# Altium footprint library My Library.PcbLib: 161 footprints (part 1 of 11)
Each footprint in its own frame and in the unit in brackets; x right, y up, seen from the top. Pads: shape width x height; smd on the part's side, far side on the other; paste and mask are expansions set on the pad; w line width, h text height; cw(c..) or ccw(c..) is an arc to the next point about the centre after c.
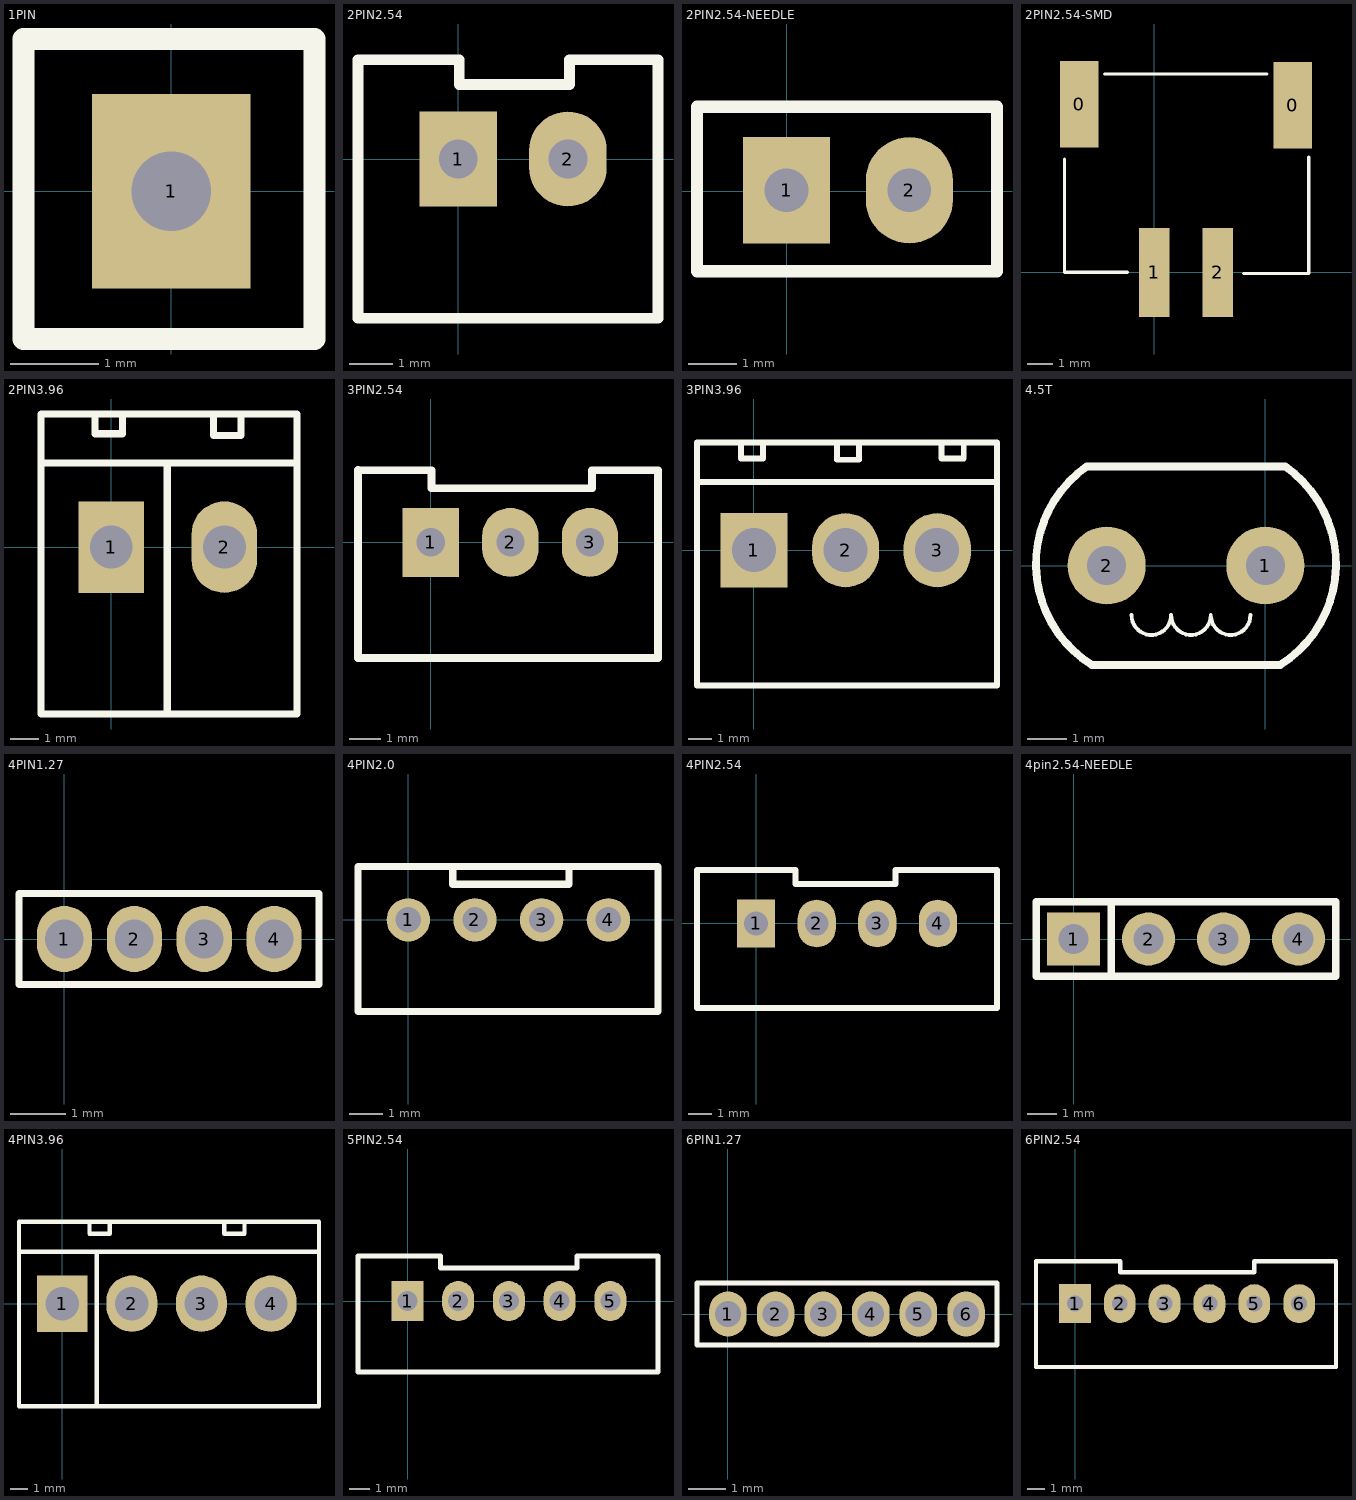
[diagram p0: the footprints below, top view; thin cyan lines are the x and y axes]

## 1PIN [mm]
height 10
pads (1):
  rect 1.8x2.2 hole 0.9: 1(0,0)
Top Overlay:
  lines w0.25: -1.675,-1.675 -1.675,1.725 1.625,1.725 1.624,-1.675 -1.675,-1.675

## 2PIN2.54 [mm]
pads (2):
  rect 1.8x2.2 hole 0.9: 1(0,0)
  oval 1.8x2.2 hole 0.9: 2(2.54,0)
Top Overlay:
  lines w0.25: -2.322,2.302 -2.322,-3.688 4.628,-3.688 ; -2.3,2.3 0.025,2.3 0.025,1.725 2.575,1.725 2.575,2.3 4.625,2.3 ; 4.626,-3.69 4.628,2.292

## 2PIN2.54-NEEDLE [mm]
height 10
pads (2):
  rect 1.8x2.2 hole 0.9: 1(0,0.025)
  oval 1.8x2.2 hole 0.9: 2(2.54,0.025)
Top Overlay:
  lines w0.25: 4.325,1.75 -1.85,1.75 -1.85,-1.65 4.349,-1.65 4.35,1.75

## 2PIN2.54-SMD [mm]
height 5
pads (4):
  rect 1.5x3.4 smd: 0(-2.95,6.6) 0(5.45,6.575)
  rect 1.2x3.5 smd: 1(0,0) 2(2.5,0)
Top Overlay:
  lines w0.127: -3.525,4.45 -3.525,0 -1.05,0 ; -1.95,7.8 4.425,7.8 ; 3.525,-0.05 6.075,-0.05 6.075,4.525

## 2PIN3.96 [mm]
height 10
pads (2):
  rect 2.3x3.2 hole 1.5: 1(0,0)
  oval 2.3x3.2 hole 1.5: 2(3.96,0)
Top Overlay:
  lines w0.25: -2.434,2.95 6.496,2.95 ; -0.564,4.61 -0.564,3.97 0.39,3.97 0.39,4.61 ; 1.96,-5.82 1.96,2.89 ; 3.586,4.55 3.586,3.91 4.54,3.91 4.54,4.55 ; -2.46,-5.84 6.506,-5.84 6.506,4.66 -2.46,4.66 -2.46,-5.84

## 3PIN2.54 [mm]
height 6
pads (3):
  rect 1.8x2.2 hole 0.9: 1(0,0)
  oval 1.8x2.2 hole 0.9: 2(2.54,0) 3(5.08,0)
Top Overlay:
  lines w0.25: -2.322,2.302 -2.322,-3.688 7.249,-3.688 7.251,2.3 5.15,2.3 5.15,1.725 0.025,1.725 0.025,2.3 -2.3,2.3

## 3PIN3.96 [mm]
height 10
pads (3):
  rect 2.9x3.2 hole 1.9: 1(0,0)
  oval 2.9x3.2 hole 1.9: 2(3.96,0) 3(7.92,0)
Top Overlay:
  lines w0.25: -2.434,2.95 6.496,2.95 ; -0.564,4.61 -0.564,3.97 0.39,3.97 0.39,4.61 ; 3.586,4.55 3.586,3.91 4.54,3.91 4.54,4.55 ; 6.45,2.95 10.5,2.95 ; 6.5,4.65 10.498,4.65 10.504,-5.826 ; 6.506,-5.84 -2.46,-5.84 -2.46,4.66 6.506,4.66 ; 6.525,-5.85 10.5,-5.85 10.5,-5.775 ; 8.111,4.6 8.111,3.96 9.065,3.96 9.065,4.6

## 4.5T [mm]
height 5
pads (2):
  round 2 hole 1: 1(0,0) 2(-4.064,0)
Top Overlay:
  lines w0.1: -3.429,-1.27 ccw(c-2.921,-1.27) -2.413,-1.27 ccw(c-1.905,-1.27) -1.397,-1.27 ccw(c-0.889,-1.27) -0.381,-1.27
  lines w0.2: 0.378,-2.545 -4.448,-2.545 cw(c-2.821,0.039) -4.572,2.54 0.508,2.54 cw(c-1.243,0.039) 0.384,-2.545

## 4PIN1.27 [mm]
height 10
pads (4):
  oval 1x1.2 hole 0.7: 1(0,0) 2(1.27,0) 3(2.54,0) 4(3.81,0)
Top Overlay:
  lines w0.127: -0.825,-0.825 -0.825,0.825 4.625,0.825 4.625,-0.825 -0.825,-0.825

## 4PIN2.0 [mm]
height 5
pads (4):
  round 1.3 hole 0.762: 1(0,0) 2(2,0) 3(4,0) 4(6,0)
Top Overlay:
  lines w0.22: 1.33,1.58 1.33,1.07 4.82,1.07 4.82,1.55 ; -1.508,-2.75 7.49,-2.75 7.49,1.6 -1.508,1.6 -1.508,-2.75

## 4PIN2.54 [mm]
height 10
pads (4):
  rect 1.6x2 hole 1: 1(0,0)
  oval 1.6x2 hole 1: 2(2.54,0) 3(5.08,0) 4(7.62,0)
Top Overlay:
  lines w0.25: 1.65,2.232 1.65,1.65 5.85,1.65 5.85,2.232 ; 1.65,2.25 -2.48,2.25 -2.48,-3.55 10.1,-3.55 10.1,2.25 5.85,2.25

## 4pin2.54-NEEDLE [mm]
height 10
pads (4):
  rect 1.8x1.8 hole 1: 1(0,0)
  round 1.8 hole 1: 2(2.54,0) 3(5.08,0) 4(7.62,0)
Top Overlay:
  lines w0.254: 1.27,-1.27 1.27,1.27 ; -1.27,-1.27 -1.27,1.27 8.89,1.27 8.89,-1.27 -1.27,-1.27

## 4PIN3.96 [mm]
height 10
pads (4):
  rect 2.9x3.2 hole 1.9: 1(0,0)
  oval 2.9x3.2 hole 1.9: 2(3.96,0) 3(7.92,0) 4(11.88,0)
Top Overlay:
  lines w0.25: -2.44,2.942 14.568,2.942 ; 1.55,4.61 1.55,3.97 2.7,3.97 2.7,4.61 ; 1.96,-5.82 1.96,2.89 ; 9.22,4.61 9.22,3.97 10.37,3.97 10.37,4.61 ; -2.46,-5.84 14.608,-5.84 14.608,4.66 -2.46,4.66 -2.46,-5.84

## 5PIN2.54 [mm]
height 5
pads (5):
  rect 1.6x2 hole 1: 1(0,0)
  oval 1.6x2 hole 1: 2(2.54,0) 3(5.08,0) 4(7.62,0) 5(10.16,0)
Top Overlay:
  lines w0.25: 1.65,2.232 1.65,1.65 8.5,1.65 8.5,2.25 12.55,2.25 12.55,-3.55 -2.48,-3.55 -2.48,2.25 1.65,2.25

## 6PIN1.27 [mm]
height 10
pads (6):
  oval 1x1.2 hole 0.7: 1(0,0) 2(1.27,0) 3(2.54,0) 4(3.81,0) 5(5.08,0) 6(6.35,0)
Top Overlay:
  lines w0.127: -0.825,-0.825 7.175,-0.825 7.175,0.825 -0.825,0.825 -0.825,-0.825

## 6PIN2.54 [mm]
height 10
pads (6):
  rect 1.8x2.2 hole 0.9: 1(0,0)
  oval 1.8x2.2 hole 0.9: 2(2.53,0) 3(5.07,0) 4(7.61,0) 5(10.15,0) 6(12.69,0)
Top Overlay:
  lines w0.25: -2.214,2.41 -2.214,-3.59 14.775,-3.59 14.775,2.4 10.15,2.4 10.15,1.775 2.55,1.775 2.55,2.4 -2.2,2.4
3D body: height 10, standoff 0, extent -2.175,-3.575 14.775,2.25